# EAGLE library part WIRL-NFW2_2621011022000 (library WIRL)
Ophelia-IV - Radio Module 2.4 GHz without firmware WIRL-NFW2 build your own firmware Module Details see: https://we-online.de/katalog/en/article/2611011022000/
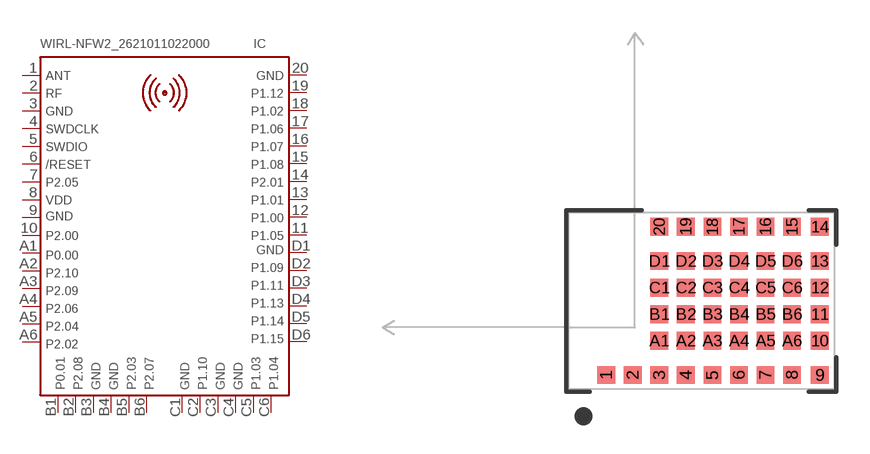
[diagram p32: symbol with the pads of WIRL-NFW2_2621011022000; footprint WIRL-NFW2_2621011022000]

Designator prefix IC

## WIRL-NFW2_2621011022000 (DATASHEET: https://www.we-online.com/redexpert/spec/2621011022000?ae; HEIGHT: 2.3mm; MANUFACTURER: Würth Elektronik; MOUNT: SMT; PART-NUMBER: 2621011022000; PREFIX: IC; VALUE: 2621011022000)  [WIRL-NFW2_2621011022000]
1  1
2  2
3  3
4  4
5  5
6  6
7  7
8  8
9  9
10  10
11  11
12  12
13  13
14  14
15  15
16  16
17  17
18  18
19  19
20  20
A1  A1
A2  A2
A3  A3
A4  A4
A5  A5
A6  A6
B1  B1
B2  B2
B3  B3
B4  B4
B5  B5
B6  B6
C1  C1
C2  C2
C3  C3
C4  C4
C5  C5
C6  C6
D1  D1
D2  D2
D3  D3
D4  D4
D5  D5
D6  D6

## Footprint WIRL-NFW2_2621011022000 (pad centres in mm)
smd 0.8 x 0.8: 1 -4.3,-3.35; 2 -3.1,-3.35; 3 -1.9,-3.35; 4 -0.7,-3.35; 5 0.5,-3.35; 6 1.7,-3.35; 7 2.9,-3.35; 8 4.1,-3.35; 9 5.35,-3.35; 10 5.35,-1.8; 11 5.35,-0.6; 12 5.35,0.6; 13 5.35,1.8; 14 5.35,3.35; 15 4.1,3.35; 16 2.9,3.35; 17 1.7,3.35; 18 0.5,3.35; 19 -0.7,3.35; 20 -1.9,3.35; A1 -1.9,-1.8; A2 -0.7,-1.8; A3 0.5,-1.8; A4 1.7,-1.8; A5 2.9,-1.8; A6 4.1,-1.8; B1 -1.9,-0.6; B2 -0.7,-0.6; B3 0.5,-0.6; B4 1.7,-0.6; B5 2.9,-0.6; B6 4.1,-0.6; C1 -1.9,0.6; C2 -0.7,0.6; C3 0.5,0.6; C4 1.7,0.6; C5 2.9,0.6; C6 4.1,0.6; D1 -1.9,1.8; D2 -0.7,1.8; D3 0.5,1.8; D4 1.7,1.8; D5 2.9,1.8; D6 4.1,1.8